# Altium schematic symbol library Schlib_NIXIE2.0.SchLib: 1 symbol
Pins are listed as number, name and electrical type; pins without a type are passive.

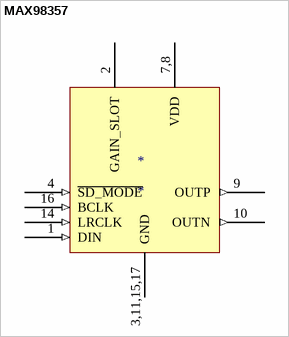
[diagram p0: symbol MAX98357]

## MAX98357
designator *
footprint QFN16_3X3 (QFN, 16-Leads, Body 3.00x3.00mm, Pitch 0.50mm, Thermal Pad 1.23x1.23mm, IPC Medium Density)
pins: 1 DIN (in), 2 GAIN_SLOT, 3,11,15,17 GND (power), 4 ~{SD_MODE} (in), 7,8 VDD (power), 9 OUTP (out), 10 OUTN (out), 14 LRCLK (in), 16 BCLK (in)